# Altium footprint library SP3232_module_pcb_lib.PcbLib: 6 footprints
Each footprint in its own frame and in the unit in brackets; x right, y up, seen from the top. Pads: shape width x height; smd on the part's side, far side on the other; paste and mask are expansions set on the pad; w line width, h text height; cw(c..) or ccw(c..) is an arc to the next point about the centre after c.
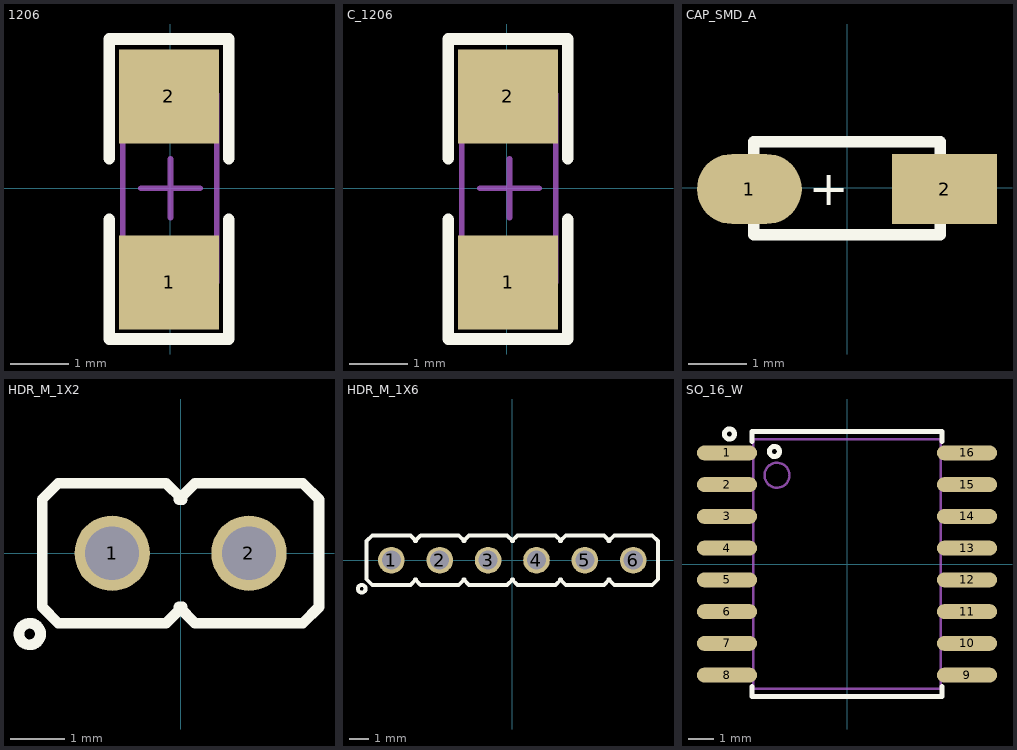
[diagram p0: the footprints below, top view; thin cyan lines are the x and y axes]

## 1206 [mm]
pads (2):
  rect 1.7x1.6 smd: 1(-0.025,-1.6) 2(-0.025,1.563)
Top Overlay:
  lines w0.2: -1.041,-0.533 -1.041,-2.565 0.991,-2.565 0.991,-0.533 ; -1.041,0.508 -1.041,2.54 0.991,2.54 0.991,0.508
Mechanical 15:
  lines w0.1: -0.5,0 0.5,0 ; 0,-0.5 0,0.5 ; -0.813,-1.6 -0.813,1.6 0.787,1.6 0.787,-1.6 -0.813,-1.6
3D body: height 1.1, standoff 0, extent -0.813,1.422 0.787,1.676
3D body: height 1.1, standoff 0, extent -0.813,-1.676 0.787,-1.422
3D body: height 1.1, standoff 0, extent -0.813,-1.422 0.787,1.422

## C_1206 [mm]
pads (2):
  rect 1.7x1.6 smd: 1(0.025,-1.6) 2(0.025,1.563)
Top Overlay:
  lines w0.2: -0.991,-0.533 -0.991,-2.565 1.041,-2.565 1.041,-0.533 ; -0.991,0.508 -0.991,2.54 1.041,2.54 1.041,0.508
Mechanical 15:
  lines w0.1: -0.449,0 0.551,0 ; 0.051,-0.5 0.051,0.5 ; -0.762,-1.6 0.838,-1.6 0.838,1.6 -0.762,1.6 -0.762,-1.6
3D body: height 1.1, standoff 0, extent -0.762,-1.422 0.838,1.422
3D body: height 1.1, standoff 0, extent -0.762,-1.676 0.838,-1.422
3D body: height 1.1, standoff 0, extent -0.762,1.422 0.838,1.676

## CAP_SMD_A [mm]
pads (2):
  oval 1.8x1.2 smd: 1(-1.676,-0.025)
  rect 1.8x1.2 smd: 2(1.676,-0.025)
Top Overlay:
  lines w0.2: -1.6,-0.813 1.6,-0.813 1.6,0.787 -1.6,0.787 -1.6,-0.813
  text "+" at -0.66,-0.305 h0.6
3D body "User Library-CAP_TANT_3216-18_A_case-1.step": height 1.7, standoff 0, extent -1.7,-0.889 1.7,0.911

## HDR_M_1X2 [mm] "Connector; Header; 2 Position"
pads (2):
  round 1.4 / inner round 1.4 / far side oval 1.4x2.2 hole 1 mask+0.1: 1(-1.27,0) 2(1.27,0)
Top Overlay:
  circle w0.2: c-2.8,-1.5 r0.2
  lines w0.2: -0.03,-1 0.27,-1.3 2.27,-1.3 2.57,-1 2.57,1 2.27,1.3 0.27,1.3 -0.03,1 ; 0.03,-1 -0.27,-1.3 -2.27,-1.3 -2.57,-1 -2.57,1 -2.27,1.3 -0.27,1.3 0.03,1
3D body "pin_header_aw140-eg-g02a.stp": height 8.72, standoff -3.68, extent -2.54,-1.25 2.44,1.25

## HDR_M_1X6 [mm] "Connector; Header; 6 Position"
pads (6):
  round 1.4 / inner round 1.4 / far side oval 1.4x2.2 hole 1 mask+0.1: 1(-6.35,0) 2(-3.81,0) 3(-1.27,0) 4(1.27,0) 5(3.81,0) 6(6.35,0)
Top Overlay:
  circle w0.2: c-7.9,-1.5 r0.2
  lines w0.2: -5.11,-1 -4.81,-1.3 -2.81,-1.3 -2.51,-1 ; -5.11,1 -4.81,1.3 -2.81,1.3 -2.51,1 ; -5.05,-1 -5.35,-1.3 -7.35,-1.3 -7.65,-1 -7.65,1 -7.35,1.3 -5.35,1.3 -5.05,1 ; -2.57,-1 -2.27,-1.3 -0.27,-1.3 0.03,-1 ; -2.57,1 -2.27,1.3 -0.27,1.3 0.03,1 ; -0.03,-1 0.27,-1.3 2.27,-1.3 2.57,-1 ; -0.03,1 0.27,1.3 2.27,1.3 2.57,1 ; 2.51,-1 2.81,-1.3 4.81,-1.3 5.11,-1 ; 2.51,1 2.81,1.3 4.81,1.3 5.11,1 ; 5.05,-1 5.35,-1.3 7.35,-1.3 7.65,-1 7.65,1 7.35,1.3 5.35,1.3 5.05,1
3D body "User Library-Header_Male_6Pin.STEP": height 8.54, standoff -3, extent -7.62,-1.3 7.62,1.19

## SO_16_W [mm] "SOP, SOIC, 7.5mm width, 1.27mm pitch,"
pads (16):
  oval 2.4x0.6 smd: 1(-4.8,4.445) 2(-4.8,3.175) 3(-4.8,1.905) 4(-4.8,0.635) 5(-4.8,-0.635) 6(-4.8,-1.905) 7(-4.8,-3.175) 8(-4.8,-4.445) 9(4.8,-4.445) 10(4.8,-3.175) 11(4.8,-1.905) 12(4.8,-0.635) 13(4.8,0.635) 14(4.8,1.905) 15(4.8,3.175) 16(4.8,4.445)
Top Overlay:
  circle w0.2: c-4.7,5.2 r0.2
  circle w0.2: c-2.9,4.5 r0.2
  lines w0.2: -3.8,-4.9 -3.8,-5.3 3.8,-5.3 3.8,-4.9 ; -3.8,4.9 -3.8,5.3 3.8,5.3 3.8,4.9
Mechanical 13:
  circle w0.1: c-2.8,3.55 r0.5
  lines w0.1: -3.75,-5 -3.75,5 3.75,5 3.75,-5 -3.75,-5
3D body "User Library-SOIC16_Wide_JEDEC_MS-013AA.step": height 2.62, standoff -0.03, extent -5.215,-5.25 5.415,5.25